# EAGLE library part AK6 (library lbrBluCoLight)
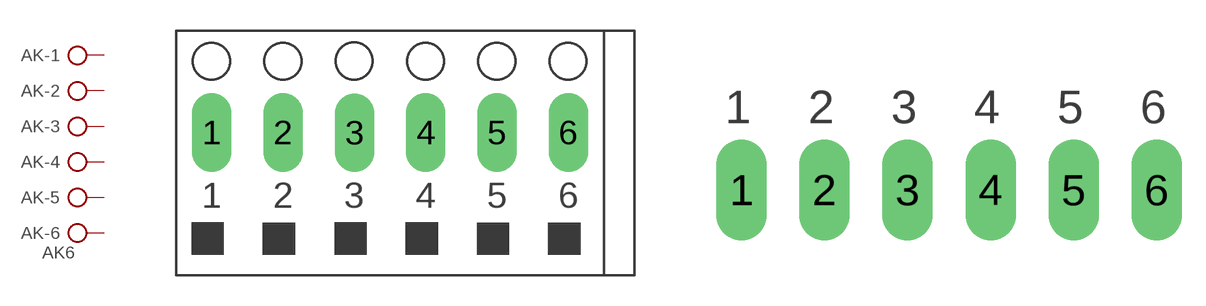
[diagram p1: symbol with the pads of AK/6; footprints AK/6, PAD/6]

Designator prefix AK; gates -1=KL -2=KL -3=KL -4=KL -5=KL -6=KLV

## AK6AK/6  [AK/6]
1  -1:KL  pas
2  -2:KL  pas
3  -3:KL  pas
4  -4:KL  pas
5  -5:KL  pas
6  -6:KL  pas

## AK6PAD/6  [PAD/6]
Pads as for AK/6

## Footprint AK/6 (pad centres in mm)
drill 1.1 pad 1.93 long: 1 -9.001,1.001; 2 -5.501,1.001; 3 -1.998,0.991; 4 1.504,0.999; 5 4.987,1.001; 6 8.494,1.001

## Footprint PAD/6 (pad centres in mm)
drill 0.9 pad 1.93 long: 1 -7.62,0; 2 -4.445,0; 3 -1.27,0; 4 1.905,0; 5 5.08,0; 6 8.255,0